# Altium schematic symbol library pulse-JXD2-0015NL.SchLib: 1 symbol
Pins are listed as number, name and electrical type; pins without a type are passive.

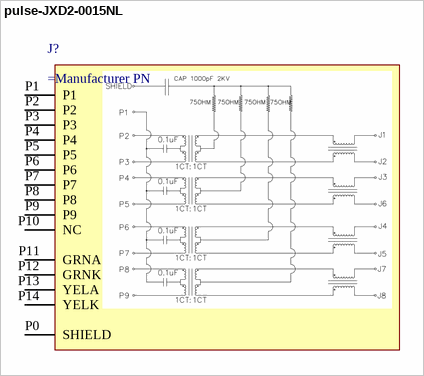
[diagram p0: symbol pulse-JXD2-0015NL]

## pulse-JXD2-0015NL
designator J?
pins: P0 SHIELD, P1, P2, P3, P4, P5, P6, P7, P8, P9, P10 NC, P11 GRNA, P12 GRNK, P13 YELA, P14 YELK